# Altium integrated library TI Microcontroller MSP430 16-bit Ultra-Low Power.IntLib: 1463 symbols (part 11 of 130)
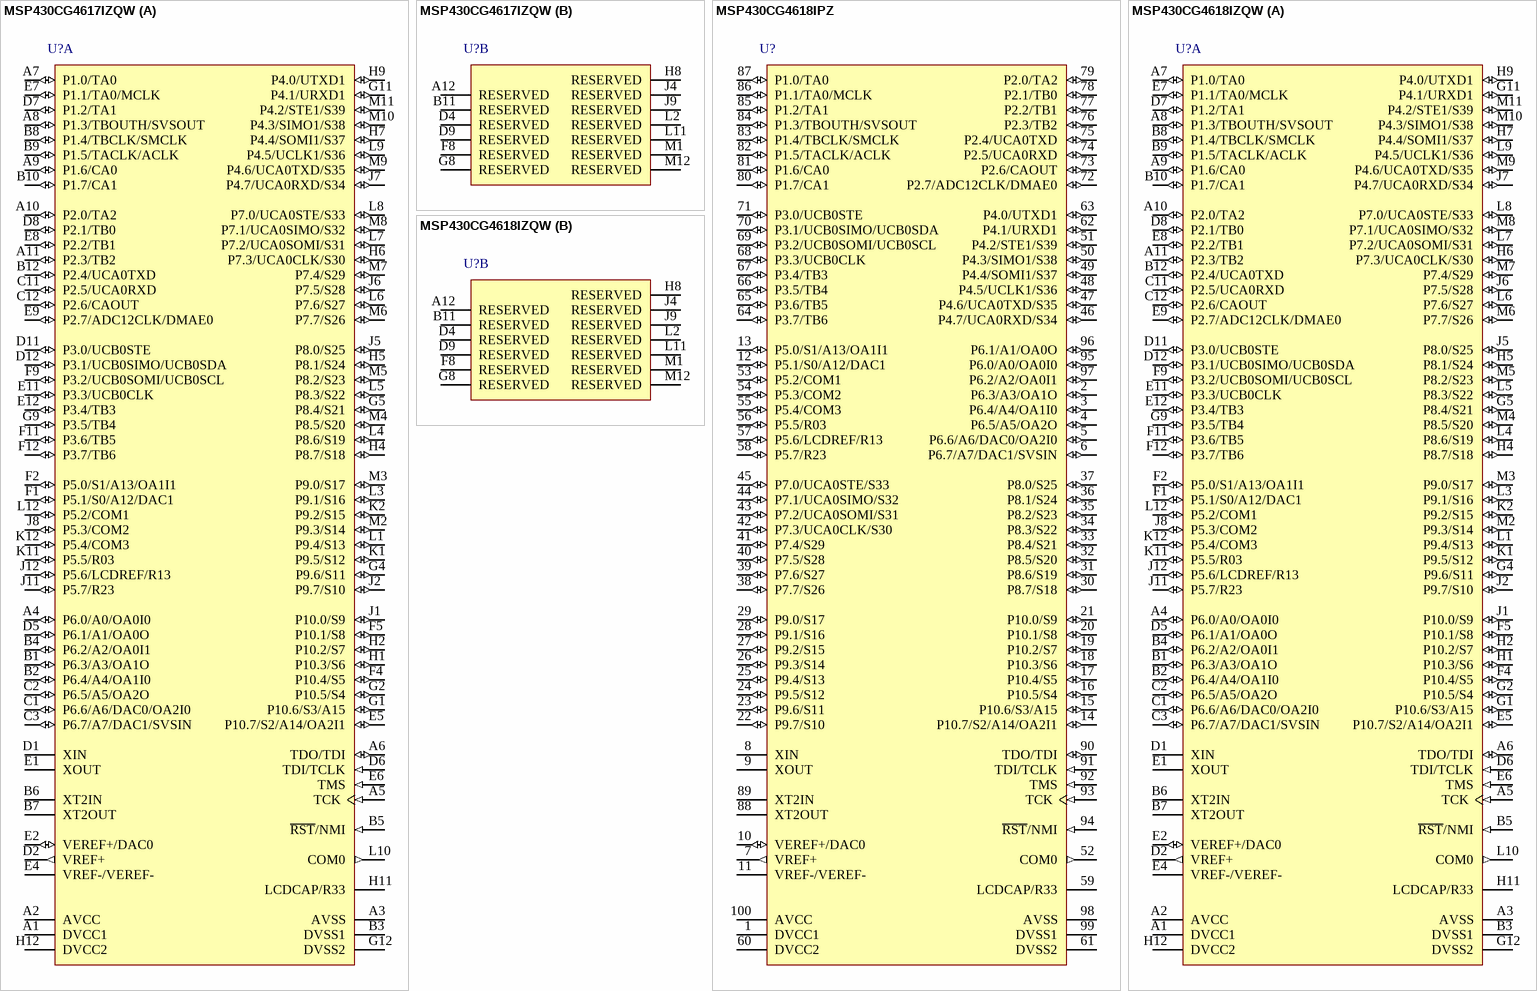
[diagram p242: symbols MSP430CG4617IZQW to MSP430CG4618IZQW]

## MSP430CG4618IPZ
designator U?
8 MHz Mixed Signal Microcontroller with 116 KB Flash, 8192 B SRAM and 80 GPIOs, -40 to 85 degC, 100-pin QFP (PZ); Manufacturer: Texas Instruments; PartNumber: MSP430CG4618IPZ; ADC: 12-bit SAR; Brown Out Reset: Yes; DAC: 2; DMA: 3; Flash(KB): 116; Frequency(MHz): 8; GPIO: 80; LCD Segments: 160; SRAM(B): 8192; SubFamily: 4 Series with LCD; USART: 1; DatasheetVersion: SLAS508I; PackageVersion: 4040149/B; PackageReference: PZ100; PackageDescription: 100-Pin Plastic Flat Pack, Body 14 x 14 mm, Pitch 0.5 mm; Supplier 1: Mouser; Supplier Part Number 1: N/A; Comparators: Yes; SVS: Yes; Temp Sensor: Yes; USCI_A (UART/LIN/IrDA/SPI): 1; USCI_B (I2C & SPI): 1; Watchdog: Yes; Mounting Technology: Surface Mount; Code_JEDEC: MS-026; ComponentLink1Description: Manufacturer URL; ComponentLink1URL: http://www.ti.com/; ComponentLink2Description: Datasheet; ComponentLink2URL: http://www.ti.com/general/docs/lit/getliterature.tsp?genericPartNumber=MSP430CG4618&fileType=pdf; ComponentLink3Description: Package Specification; ComponentLink3URL: http://www.ti.com/lit/ml/mtqf013a/mtqf013a.pdf
footprint TI-PZ100_N (QFP, 100-Leads, Body 14x14mm, Pitch 0.5mm, IPC Medium Density)
pins: 1 DVCC1 (power) "Digital supply voltage, positive terminal", 2 P6.3/A3/OA1O (io), 3 P6.4/A4/OA1I0 (io), 4 P6.5/A5/OA2O (io), 5 P6.6/A6/DAC0/OA2I0 (io), 6 P6.7/A7/DAC1/SVSIN (io), 7 VREF+ (out) "Output of positive terminal of the reference voltage in the ADC", 8 XIN "Input port for crystal oscillator XT1. Standard or watch crystals can be connected.", 9 XOUT "Output terminal of crystal oscillator XT1", 10 VEREF+/DAC0 (io), 11 VREF-/VEREF-, 12 P5.1/S0/A12/DAC1 (io), 13 P5.0/S1/A13/OA1I1 (io), 14 P10.7/S2/A14/OA2I1 (io), 15 P10.6/S3/A15 (io), 16 P10.5/S4 (io), 17 P10.4/S5 (io), 18 P10.3/S6 (io), 19 P10.2/S7 (io), 20 P10.1/S8 (io), 21 P10.0/S9 (io), 22 P9.7/S10 (io), 23 P9.6/S11 (io), 24 P9.5/S12 (io), 25 P9.4/S13 (io), 26 P9.3/S14 (io), 27 P9.2/S15 (io), 28 P9.1/S16 (io), 29 P9.0/S17 (io), 30 P8.7/S18 (io), 31 P8.6/S19 (io), 32 P8.5/S20 (io), 33 P8.4/S21 (io), 34 P8.3/S22 (io), 35 P8.2/S23 (io), 36 P8.1/S24 (io), 37 P8.0/S25 (io), 38 P7.7/S26 (io), 39 P7.6/S27 (io), 40 P7.5/S28 (io), 41 P7.4/S29 (io), 42 P7.3/UCA0CLK/S30 (io), 43 P7.2/UCA0SOMI/S31 (io), 44 P7.1/UCA0SIMO/S32 (io), 45 P7.0/UCA0STE/S33 (io), 46 P4.7/UCA0RXD/S34 (io), 47 P4.6/UCA0TXD/S35 (io), 48 P4.5/UCLK1/S36 (io), 49 P4.4/SOMI1/S37 (io), 50 P4.3/SIMO1/S38 (io), 51 P4.2/STE1/S39 (io), 52 COM0 (out) "COM0?3 are used for LCD backplanes.", 53 P5.2/COM1 (io), 54 P5.3/COM2 (io), 55 P5.4/COM3 (io), 56 P5.5/R03 (io), 57 P5.6/LCDREF/R13 (io), 58 P5.7/R23 (io), 59 LCDCAP/R33, 60 DVCC2 (power) "Digital supply voltage, positive terminal", 61 DVSS2 (power) "Digital supply voltage, negative terminal", 62 P4.1/URXD1 (io), 63 P4.0/UTXD1 (io), 64 P3.7/TB6 (io), 65 P3.6/TB5 (io), 66 P3.5/TB4 (io), 67 P3.4/TB3 (io), 68 P3.3/UCB0CLK (io), 69 P3.2/UCB0SOMI/UCB0SCL (io), 70 P3.1/UCB0SIMO/UCB0SDA (io), 71 P3.0/UCB0STE (io), 72 P2.7/ADC12CLK/DMAE0 (io), 73 P2.6/CAOUT (io), 74 P2.5/UCA0RXD (io), 75 P2.4/UCA0TXD (io), 76 P2.3/TB2 (io), 77 P2.2/TB1 (io), 78 P2.1/TB0 (io), 79 P2.0/TA2 (io), 80 P1.7/CA1 (io), 81 P1.6/CA0 (io), 82 P1.5/TACLK/ACLK (io), 83 P1.4/TBCLK/SMCLK (io), 84 P1.3/TBOUTH/SVSOUT (io), 85 P1.2/TA1 (io), 86 P1.1/TA0/MCLK (io), 87 P1.0/TA0 (io), 88 XT2OUT "Output terminal of crystal oscillator XT2", 89 XT2IN "Input port for crystal oscillator XT2. Only standard crystals can be connected.", 90 TDO/TDI (io), 91 TDI/TCLK (in), 92 TMS (in) "Test mode select. TMS is used as an input port for device programming and test.", 93 TCK (in) "Test clock. TCK is the clock input port for device programming and test.", 94 ~{RST}/NMI (in), 95 P6.0/A0/OA0I0 (io), 96 P6.1/A1/OA0O (io), 97 P6.2/A2/OA0I1 (io), 98 AVSS (power) "Analog supply voltage, negative terminal. Supplies SVS, brownout, oscillator, comparator_A, port 1", 99 DVSS1 (power) "Digital supply voltage, negative terminal", 100 AVCC (power) "Analog supply voltage, positive terminal. Supplies SVS, brownout, oscillator, comparator_A, port 1; must not power up prior to DVCC1/DVCC2."

## MSP430CG4618IZQW
designator U?
8 MHz Mixed Signal Microcontroller with 116 KB Flash, 8192 B SRAM and 80 GPIOs, -40 to 85 degC, 113-pin BGA (ZQW); Manufacturer: Texas Instruments; PartNumber: MSP430CG4618IZQW; ADC: 12-bit SAR; Brown Out Reset: Yes; DAC: 2; DMA: 3; Flash(KB): 116; Frequency(MHz): 8; GPIO: 80; LCD Segments: 160; SRAM(B): 8192; SubFamily: 4 Series with LCD; USART: 1; DatasheetVersion: SLAS508I; PackageVersion: 4204599-3/D; PackageReference: ZQW113; PackageDescription: 113-Pin Plastic Ball Grid Array Package, Body 7 x 7 mm, Pitch 0.5 mm; Comparators: Yes; SVS: Yes; Temp Sensor: Yes; USCI_A (UART/LIN/IrDA/SPI): 1; USCI_B (I2C & SPI): 1; Watchdog: Yes; Mounting Technology: Surface Mount; Code_JEDEC: MO-225; ComponentLink1Description: Manufacturer URL; ComponentLink1URL: http://www.ti.com/; ComponentLink2Description: Datasheet; ComponentLink2URL: http://www.ti.com/general/docs/lit/getliterature.tsp?genericPartNumber=MSP430CG4618&fileType=pdf; ComponentLink3Description: Package Specification; ComponentLink3URL: http://www.ti.com/lit/ml/mpbg674/mpbg674.pdf
footprint TI-ZQW113 (BGA, 113-Balls, Body 7x7mm, Pitch 0.5mm)
part A pins: A1 DVCC1 (power) "Digital supply voltage, positive terminal", A2 AVCC (power) "Analog supply voltage, positive terminal. Supplies SVS, brownout, oscillator, comparator_A, port 1; must not power up prior to DVCC1/DVCC2.", A3 AVSS (power) "Analog supply voltage, negative terminal. Supplies SVS, brownout, oscillator, comparator_A, port 1", A4 P6.0/A0/OA0I0 (io), A5 TCK (in) "Test clock. TCK is the clock input port for device programming and test.", A6 TDO/TDI (io), A7 P1.0/TA0 (io), A8 P1.3/TBOUTH/SVSOUT (io), A9 P1.6/CA0 (io), A10 P2.0/TA2 (io), A11 P2.3/TB2 (io), B1 P6.3/A3/OA1O (io), B2 P6.4/A4/OA1I0 (io), B3 DVSS1 (power) "Digital supply voltage, negative terminal", B4 P6.2/A2/OA0I1 (io), B5 ~{RST}/NMI (in), B6 XT2IN "Input port for crystal oscillator XT2. Only standard crystals can be connected.", B7 XT2OUT "Output terminal of crystal oscillator XT2", B8 P1.4/TBCLK/SMCLK (io), B9 P1.5/TACLK/ACLK (io), B10 P1.7/CA1 (io), B12 P2.4/UCA0TXD (io), C1 P6.6/A6/DAC0/OA2I0 (io), C2 P6.5/A5/OA2O (io), C3 P6.7/A7/DAC1/SVSIN (io), C11 P2.5/UCA0RXD (io), C12 P2.6/CAOUT (io), D1 XIN "Input port for crystal oscillator XT1. Standard or watch crystals can be connected.", D2 VREF+ (out) "Output of positive terminal of the reference voltage in the ADC", D5 P6.1/A1/OA0O (io), D6 TDI/TCLK (in), D7 P1.2/TA1 (io), D8 P2.1/TB0 (io), D11 P3.0/UCB0STE (io), D12 P3.1/UCB0SIMO/UCB0SDA (io), E1 XOUT "Output terminal of crystal oscillator XT1", E2 VEREF+/DAC0 (io), E4 VREF-/VEREF-, E5 P10.7/S2/A14/OA2I1 (io), E6 TMS (in) "Test mode select. TMS is used as an input port for device programming and test.", E7 P1.1/TA0/MCLK (io), E8 P2.2/TB1 (io), E9 P2.7/ADC12CLK/DMAE0 (io), E11 P3.3/UCB0CLK (io), E12 P3.4/TB3 (io), F1 P5.1/S0/A12/DAC1 (io), F2 P5.0/S1/A13/OA1I1 (io), F4 P10.4/S5 (io), F5 P10.1/S8 (io), F9 P3.2/UCB0SOMI/UCB0SCL (io), F11 P3.6/TB5 (io), F12 P3.7/TB6 (io), G1 P10.6/S3/A15 (io), G2 P10.5/S4 (io), G4 P9.6/S11 (io), G5 P8.4/S21 (io), G9 P3.5/TB4 (io), G11 P4.1/URXD1 (io), G12 DVSS2 (power) "Digital supply voltage, negative terminal", H1 P10.3/S6 (io), H2 P10.2/S7 (io), H4 P8.7/S18 (io), H5 P8.1/S24 (io), H6 P7.3/UCA0CLK/S30 (io), H7 P4.4/SOMI1/S37 (io), H9 P4.0/UTXD1 (io), H11 LCDCAP/R33, H12 DVCC2 (power) "Digital supply voltage, positive terminal", J1 P10.0/S9 (io), J2 P9.7/S10 (io), J5 P8.0/S25 (io), J6 P7.5/S28 (io), J7 P4.7/UCA0RXD/S34 (io), J8 P5.3/COM2 (io), J11 P5.7/R23 (io), J12 P5.6/LCDREF/R13 (io), K1 P9.5/S12 (io), K2 P9.2/S15 (io), K11 P5.5/R03 (io), K12 P5.4/COM3 (io), L1 P9.4/S13 (io), L3 P9.1/S16 (io), L4 P8.6/S19 (io), L5 P8.3/S22 (io), L6 P7.6/S27 (io), L7 P7.2/UCA0SOMI/S31 (io), L8 P7.0/UCA0STE/S33 (io), L9 P4.5/UCLK1/S36 (io), L10 COM0 (out) "COM0?3 are used for LCD backplanes.", L12 P5.2/COM1 (io), M2 P9.3/S14 (io), M3 P9.0/S17 (io), M4 P8.5/S20 (io), M5 P8.2/S23 (io), M6 P7.7/S26 (io), M7 P7.4/S29 (io), M8 P7.1/UCA0SIMO/S32 (io), M9 P4.6/UCA0TXD/S35 (io), M10 P4.3/SIMO1/S38 (io), M11 P4.2/STE1/S39 (io)
part B pins: A12 RESERVED, B11 RESERVED, D4 RESERVED, D9 RESERVED, F8 RESERVED, G8 RESERVED, H8 RESERVED, J4 RESERVED, J9 RESERVED, L2 RESERVED, L11 RESERVED, M1 RESERVED, M12 RESERVED

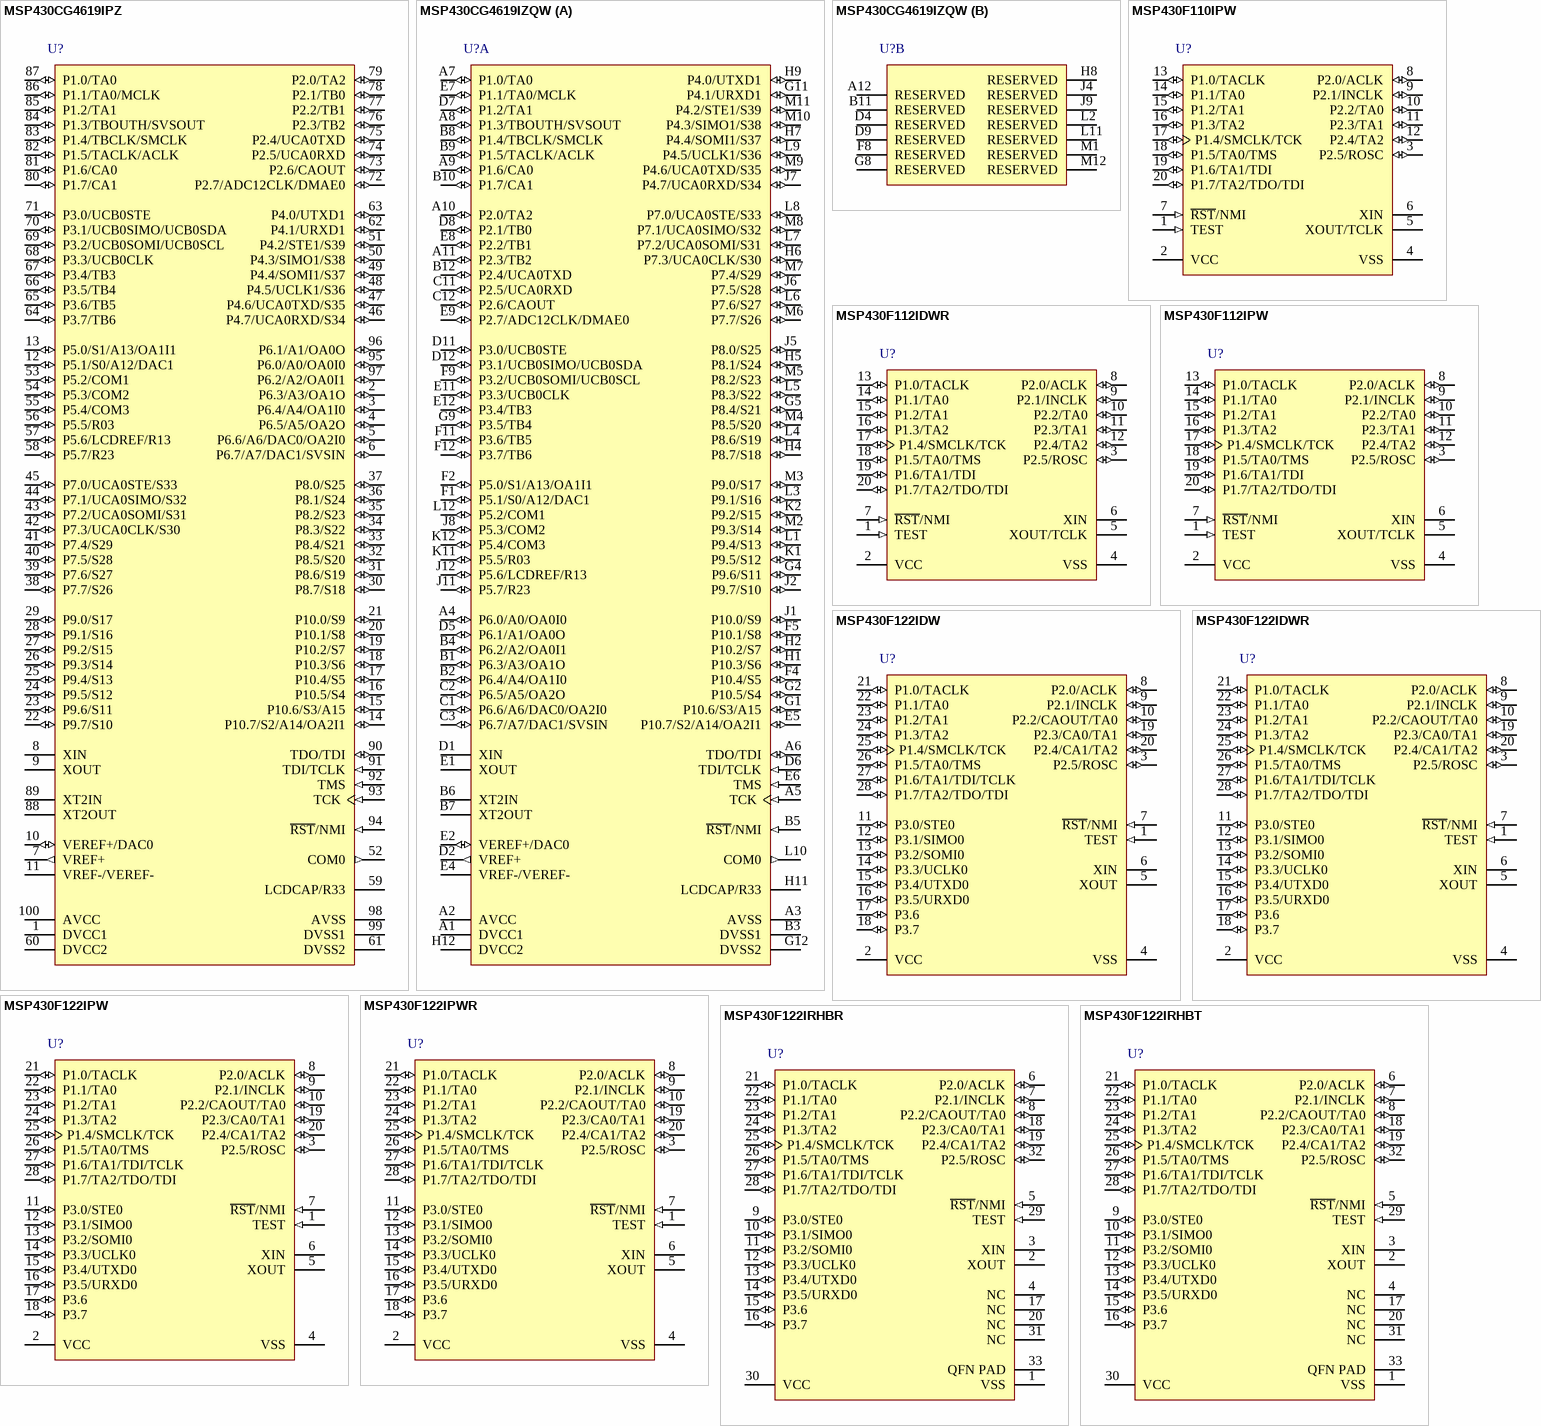
[diagram p19: symbols MSP430CG4619IPZ to MSP430F122IRHBT]

## MSP430CG4619IPZ
designator U?
8 MHz Mixed Signal Microcontroller with 120 KB Flash, 4096 B SRAM and 80 GPIOs, -40 to 85 degC, 100-pin QFP (PZ); Manufacturer: Texas Instruments; PartNumber: MSP430CG4619IPZ; ADC: 12-bit SAR; Brown Out Reset: Yes; DAC: 2; DMA: 3; Flash(KB): 120; Frequency(MHz): 8; GPIO: 80; LCD Segments: 160; SRAM(B): 4096; SubFamily: 4 Series with LCD; USART: 1; DatasheetVersion: SLAS508I; PackageVersion: 4040149/B; PackageReference: PZ100; PackageDescription: 100-Pin Plastic Flat Pack, Body 14 x 14 mm, Pitch 0.5 mm; Supplier 1: Mouser; Supplier Part Number 1: N/A; Comparators: Yes; SVS: Yes; Temp Sensor: Yes; USCI_A (UART/LIN/IrDA/SPI): 1; USCI_B (I2C & SPI): 1; Watchdog: Yes; Mounting Technology: Surface Mount; Code_JEDEC: MS-026; ComponentLink1Description: Manufacturer URL; ComponentLink1URL: http://www.ti.com/; ComponentLink2Description: Datasheet; ComponentLink2URL: http://www.ti.com/general/docs/lit/getliterature.tsp?genericPartNumber=MSP430CG4619&fileType=pdf; ComponentLink3Description: Package Specification; ComponentLink3URL: http://www.ti.com/lit/ml/mtqf013a/mtqf013a.pdf
footprint TI-PZ100_N (QFP, 100-Leads, Body 14x14mm, Pitch 0.5mm, IPC Medium Density)
pins: 1 DVCC1 (power) "Digital supply voltage, positive terminal", 2 P6.3/A3/OA1O (io), 3 P6.4/A4/OA1I0 (io), 4 P6.5/A5/OA2O (io), 5 P6.6/A6/DAC0/OA2I0 (io), 6 P6.7/A7/DAC1/SVSIN (io), 7 VREF+ (out) "Output of positive terminal of the reference voltage in the ADC", 8 XIN "Input port for crystal oscillator XT1. Standard or watch crystals can be connected.", 9 XOUT "Output terminal of crystal oscillator XT1", 10 VEREF+/DAC0 (io), 11 VREF-/VEREF-, 12 P5.1/S0/A12/DAC1 (io), 13 P5.0/S1/A13/OA1I1 (io), 14 P10.7/S2/A14/OA2I1 (io), 15 P10.6/S3/A15 (io), 16 P10.5/S4 (io), 17 P10.4/S5 (io), 18 P10.3/S6 (io), 19 P10.2/S7 (io), 20 P10.1/S8 (io), 21 P10.0/S9 (io), 22 P9.7/S10 (io), 23 P9.6/S11 (io), 24 P9.5/S12 (io), 25 P9.4/S13 (io), 26 P9.3/S14 (io), 27 P9.2/S15 (io), 28 P9.1/S16 (io), 29 P9.0/S17 (io), 30 P8.7/S18 (io), 31 P8.6/S19 (io), 32 P8.5/S20 (io), 33 P8.4/S21 (io), 34 P8.3/S22 (io), 35 P8.2/S23 (io), 36 P8.1/S24 (io), 37 P8.0/S25 (io), 38 P7.7/S26 (io), 39 P7.6/S27 (io), 40 P7.5/S28 (io), 41 P7.4/S29 (io), 42 P7.3/UCA0CLK/S30 (io), 43 P7.2/UCA0SOMI/S31 (io), 44 P7.1/UCA0SIMO/S32 (io), 45 P7.0/UCA0STE/S33 (io), 46 P4.7/UCA0RXD/S34 (io), 47 P4.6/UCA0TXD/S35 (io), 48 P4.5/UCLK1/S36 (io), 49 P4.4/SOMI1/S37 (io), 50 P4.3/SIMO1/S38 (io), 51 P4.2/STE1/S39 (io), 52 COM0 (out) "COM0?3 are used for LCD backplanes.", 53 P5.2/COM1 (io), 54 P5.3/COM2 (io), 55 P5.4/COM3 (io), 56 P5.5/R03 (io), 57 P5.6/LCDREF/R13 (io), 58 P5.7/R23 (io), 59 LCDCAP/R33, 60 DVCC2 (power) "Digital supply voltage, positive terminal", 61 DVSS2 (power) "Digital supply voltage, negative terminal", 62 P4.1/URXD1 (io), 63 P4.0/UTXD1 (io), 64 P3.7/TB6 (io), 65 P3.6/TB5 (io), 66 P3.5/TB4 (io), 67 P3.4/TB3 (io), 68 P3.3/UCB0CLK (io), 69 P3.2/UCB0SOMI/UCB0SCL (io), 70 P3.1/UCB0SIMO/UCB0SDA (io), 71 P3.0/UCB0STE (io), 72 P2.7/ADC12CLK/DMAE0 (io), 73 P2.6/CAOUT (io), 74 P2.5/UCA0RXD (io), 75 P2.4/UCA0TXD (io), 76 P2.3/TB2 (io), 77 P2.2/TB1 (io), 78 P2.1/TB0 (io), 79 P2.0/TA2 (io), 80 P1.7/CA1 (io), 81 P1.6/CA0 (io), 82 P1.5/TACLK/ACLK (io), 83 P1.4/TBCLK/SMCLK (io), 84 P1.3/TBOUTH/SVSOUT (io), 85 P1.2/TA1 (io), 86 P1.1/TA0/MCLK (io), 87 P1.0/TA0 (io), 88 XT2OUT "Output terminal of crystal oscillator XT2", 89 XT2IN "Input port for crystal oscillator XT2. Only standard crystals can be connected.", 90 TDO/TDI (io), 91 TDI/TCLK (in), 92 TMS (in) "Test mode select. TMS is used as an input port for device programming and test.", 93 TCK (in) "Test clock. TCK is the clock input port for device programming and test.", 94 ~{RST}/NMI (in), 95 P6.0/A0/OA0I0 (io), 96 P6.1/A1/OA0O (io), 97 P6.2/A2/OA0I1 (io), 98 AVSS (power) "Analog supply voltage, negative terminal. Supplies SVS, brownout, oscillator, comparator_A, port 1", 99 DVSS1 (power) "Digital supply voltage, negative terminal", 100 AVCC (power) "Analog supply voltage, positive terminal. Supplies SVS, brownout, oscillator, comparator_A, port 1; must not power up prior to DVCC1/DVCC2."

## MSP430CG4619IZQW
designator U?
8 MHz Mixed Signal Microcontroller with 120 KB Flash, 4096 B SRAM and 80 GPIOs, -40 to 85 degC, 113-pin BGA (ZQW); Manufacturer: Texas Instruments; PartNumber: MSP430CG4619IZQW; ADC: 12-bit SAR; Brown Out Reset: Yes; DAC: 2; DMA: 3; Flash(KB): 120; Frequency(MHz): 8; GPIO: 80; LCD Segments: 160; SRAM(B): 4096; SubFamily: 4 Series with LCD; USART: 1; DatasheetVersion: SLAS508I; PackageVersion: 4204599-3/D; PackageReference: ZQW113; PackageDescription: 113-Pin Plastic Ball Grid Array Package, Body 7 x 7 mm, Pitch 0.5 mm; Comparators: Yes; SVS: Yes; Temp Sensor: Yes; USCI_A (UART/LIN/IrDA/SPI): 1; USCI_B (I2C & SPI): 1; Watchdog: Yes; Mounting Technology: Surface Mount; Code_JEDEC: MO-225; ComponentLink1Description: Manufacturer URL; ComponentLink1URL: http://www.ti.com/; ComponentLink2Description: Datasheet; ComponentLink2URL: http://www.ti.com/general/docs/lit/getliterature.tsp?genericPartNumber=MSP430CG4619&fileType=pdf; ComponentLink3Description: Package Specification; ComponentLink3URL: http://www.ti.com/lit/ml/mpbg674/mpbg674.pdf
footprint TI-ZQW113 (BGA, 113-Balls, Body 7x7mm, Pitch 0.5mm)
part A pins: A1 DVCC1 (power) "Digital supply voltage, positive terminal", A2 AVCC (power) "Analog supply voltage, positive terminal. Supplies SVS, brownout, oscillator, comparator_A, port 1; must not power up prior to DVCC1/DVCC2.", A3 AVSS (power) "Analog supply voltage, negative terminal. Supplies SVS, brownout, oscillator, comparator_A, port 1", A4 P6.0/A0/OA0I0 (io), A5 TCK (in) "Test clock. TCK is the clock input port for device programming and test.", A6 TDO/TDI (io), A7 P1.0/TA0 (io), A8 P1.3/TBOUTH/SVSOUT (io), A9 P1.6/CA0 (io), A10 P2.0/TA2 (io), A11 P2.3/TB2 (io), B1 P6.3/A3/OA1O (io), B2 P6.4/A4/OA1I0 (io), B3 DVSS1 (power) "Digital supply voltage, negative terminal", B4 P6.2/A2/OA0I1 (io), B5 ~{RST}/NMI (in), B6 XT2IN "Input port for crystal oscillator XT2. Only standard crystals can be connected.", B7 XT2OUT "Output terminal of crystal oscillator XT2", B8 P1.4/TBCLK/SMCLK (io), B9 P1.5/TACLK/ACLK (io), B10 P1.7/CA1 (io), B12 P2.4/UCA0TXD (io), C1 P6.6/A6/DAC0/OA2I0 (io), C2 P6.5/A5/OA2O (io), C3 P6.7/A7/DAC1/SVSIN (io), C11 P2.5/UCA0RXD (io), C12 P2.6/CAOUT (io), D1 XIN "Input port for crystal oscillator XT1. Standard or watch crystals can be connected.", D2 VREF+ (out) "Output of positive terminal of the reference voltage in the ADC", D5 P6.1/A1/OA0O (io), D6 TDI/TCLK (in), D7 P1.2/TA1 (io), D8 P2.1/TB0 (io), D11 P3.0/UCB0STE (io), D12 P3.1/UCB0SIMO/UCB0SDA (io), E1 XOUT "Output terminal of crystal oscillator XT1", E2 VEREF+/DAC0 (io), E4 VREF-/VEREF-, E5 P10.7/S2/A14/OA2I1 (io), E6 TMS (in) "Test mode select. TMS is used as an input port for device programming and test.", E7 P1.1/TA0/MCLK (io), E8 P2.2/TB1 (io), E9 P2.7/ADC12CLK/DMAE0 (io), E11 P3.3/UCB0CLK (io), E12 P3.4/TB3 (io), F1 P5.1/S0/A12/DAC1 (io), F2 P5.0/S1/A13/OA1I1 (io), F4 P10.4/S5 (io), F5 P10.1/S8 (io), F9 P3.2/UCB0SOMI/UCB0SCL (io), F11 P3.6/TB5 (io), F12 P3.7/TB6 (io), G1 P10.6/S3/A15 (io), G2 P10.5/S4 (io), G4 P9.6/S11 (io), G5 P8.4/S21 (io), G9 P3.5/TB4 (io), G11 P4.1/URXD1 (io), G12 DVSS2 (power) "Digital supply voltage, negative terminal", H1 P10.3/S6 (io), H2 P10.2/S7 (io), H4 P8.7/S18 (io), H5 P8.1/S24 (io), H6 P7.3/UCA0CLK/S30 (io), H7 P4.4/SOMI1/S37 (io), H9 P4.0/UTXD1 (io), H11 LCDCAP/R33, H12 DVCC2 (power) "Digital supply voltage, positive terminal", J1 P10.0/S9 (io), J2 P9.7/S10 (io), J5 P8.0/S25 (io), J6 P7.5/S28 (io), J7 P4.7/UCA0RXD/S34 (io), J8 P5.3/COM2 (io), J11 P5.7/R23 (io), J12 P5.6/LCDREF/R13 (io), K1 P9.5/S12 (io), K2 P9.2/S15 (io), K11 P5.5/R03 (io), K12 P5.4/COM3 (io), L1 P9.4/S13 (io), L3 P9.1/S16 (io), L4 P8.6/S19 (io), L5 P8.3/S22 (io), L6 P7.6/S27 (io), L7 P7.2/UCA0SOMI/S31 (io), L8 P7.0/UCA0STE/S33 (io), L9 P4.5/UCLK1/S36 (io), L10 COM0 (out) "COM0?3 are used for LCD backplanes.", L12 P5.2/COM1 (io), M2 P9.3/S14 (io), M3 P9.0/S17 (io), M4 P8.5/S20 (io), M5 P8.2/S23 (io), M6 P7.7/S26 (io), M7 P7.4/S29 (io), M8 P7.1/UCA0SIMO/S32 (io), M9 P4.6/UCA0TXD/S35 (io), M10 P4.3/SIMO1/S38 (io), M11 P4.2/STE1/S39 (io)
part B pins: A12 RESERVED, B11 RESERVED, D4 RESERVED, D9 RESERVED, F8 RESERVED, G8 RESERVED, H8 RESERVED, J4 RESERVED, J9 RESERVED, L2 RESERVED, L11 RESERVED, M1 RESERVED, M12 RESERVED

## MSP430F110IPW
designator U?
8 MHz Mixed Signal Microcontroller with 1 KB Flash, 128 B SRAM and 14 GPIOs, -40 to 85 degC, 20-pin SOP (PW), Green (RoHS & no Sb/Br); Manufacturer: Texas Instruments; PartNumber: MSP430F110IPW; Flash(KB): 1; Frequency(MHz): 8; GPIO: 14; SRAM(B): 128; SubFamily: 1 Series; Watchdog: Yes; DatasheetVersion: SLAS256D; PackageVersion: 4040064-5/G; PackageReference: PW20; PackageDescription: 20-Pin Plastic Small Outline, Body 6.5 x 4.4 mm, 0.65 mm Pitch; Supplier 1: Digi-Key; Supplier Part Number 1: 296-9609-5-ND; Supplier 2: Mouser; Supplier Part Number 2: 595-MSP430F110IPW; Eco-Plan: Green (RoHS & no Sb/Br); Timers - 16-bit: 1; Mounting Technology: Surface Mount; Code_JEDEC: MO-153; ComponentLink1Description: Manufacturer URL; ComponentLink1URL: http://www.ti.com/; ComponentLink2Description: Datasheet; ComponentLink2URL: http://www.ti.com/general/docs/lit/getliterature.tsp?genericPartNumber=MSP430F110&fileType=pdf; ComponentLink3Description: Package Specification; ComponentLink3URL: http://www.ti.com.cn/cn/lit/ml/mpds362/mpds362.pdf
footprint TI-PW20_N (SOP, 20-Leads, Body 6.5x4.4mm, Pitch 0.65mm, IPC Medium Density)
pins: 1 TEST (in) "Selects test mode for JTAG pins on Port1. Must be tied low with less than 30 k ohm.", 2 VCC (power) "Supply voltage", 3 P2.5/ROSC (io), 4 VSS (power) "Ground reference", 5 XOUT/TCLK, 6 XIN "Input terminal of crystal oscillator", 7 ~{RST}/NMI (in), 8 P2.0/ACLK (io), 9 P2.1/INCLK (io), 10 P2.2/TA0 (io), 11 P2.3/TA1 (io), 12 P2.4/TA2 (io), 13 P1.0/TACLK (io), 14 P1.1/TA0 (io), 15 P1.2/TA1 (io), 16 P1.3/TA2 (io), 17 P1.4/SMCLK/TCK (io), 18 P1.5/TA0/TMS (io), 19 P1.6/TA1/TDI (io), 20 P1.7/TA2/TDO/TDI (io)

## MSP430F112IDWR
designator U?
8 MHz Mixed Signal Microcontroller with 4 KB Flash, 128 B SRAM and 14 GPIOs, -40 to 85 degC, 20-pin SOIC (DW), Green (RoHS & no Sb/Br); Manufacturer: Texas Instruments; PartNumber: MSP430F112IDWR; Flash(KB): 4; Frequency(MHz): 8; GPIO: 14; SRAM(B): 128; SubFamily: 1 Series; Timers - 16-bit: 1; Watchdog: Yes; DatasheetVersion: SLAS256D; PackageVersion: 4040000-4/G; PackageReference: DW20; PackageDescription: 20-Pin Plastic Small Outline, Body 12.8 x 7.5 mm, Pitch 1.27 mm; Supplier 1: Digi-Key; Supplier Part Number 1: MSP430F112IDWR-ND; Supplier 2: Mouser; Supplier Part Number 2: 595-MSP430F112IDWR; Eco-Plan: Green (RoHS & no Sb/Br); Mounting Technology: Surface Mount; Code_JEDEC: MO-013; ComponentLink1Description: Manufacturer URL; ComponentLink1URL: http://www.ti.com/; ComponentLink2Description: Datasheet; ComponentLink2URL: http://www.ti.com/general/docs/lit/getliterature.tsp?genericPartNumber=MSP430F112&fileType=pdf; ComponentLink3Description: Package Specification; ComponentLink3URL: http://www.ti.com/lit/ml/mpds173a/mpds173a.pdf
footprint TI-DW20_N (SOIC, 20-Leads, Body 12.8x7.5mm, Pitch 1.27mm, IPC Medium Density)
pins: 1 TEST (in) "Selects test mode for JTAG pins on Port1. Must be tied low with less than 30 k ohm.", 2 VCC (power) "Supply voltage", 3 P2.5/ROSC (io), 4 VSS (power) "Ground reference", 5 XOUT/TCLK, 6 XIN "Input terminal of crystal oscillator", 7 ~{RST}/NMI (in), 8 P2.0/ACLK (io), 9 P2.1/INCLK (io), 10 P2.2/TA0 (io), 11 P2.3/TA1 (io), 12 P2.4/TA2 (io), 13 P1.0/TACLK (io), 14 P1.1/TA0 (io), 15 P1.2/TA1 (io), 16 P1.3/TA2 (io), 17 P1.4/SMCLK/TCK (io), 18 P1.5/TA0/TMS (io), 19 P1.6/TA1/TDI (io), 20 P1.7/TA2/TDO/TDI (io)

## MSP430F112IPW
designator U?
8 MHz Mixed Signal Microcontroller with 4 KB Flash, 128 B SRAM and 14 GPIOs, -40 to 85 degC, 20-pin SOP (PW), Green (RoHS & no Sb/Br); Manufacturer: Texas Instruments; PartNumber: MSP430F112IPW; Flash(KB): 4; Frequency(MHz): 8; GPIO: 14; SRAM(B): 128; SubFamily: 1 Series; Timers - 16-bit: 1; Watchdog: Yes; DatasheetVersion: SLAS256D; PackageVersion: 4040064-5/G; PackageReference: PW20; PackageDescription: 20-Pin Plastic Small Outline, Body 6.5 x 4.4 mm, 0.65 mm Pitch; Supplier 1: Digi-Key; Supplier Part Number 1: 296-9610-5-ND; Supplier 2: Mouser; Supplier Part Number 2: 595-MSP430F112IPW; Eco-Plan: Green (RoHS & no Sb/Br); Mounting Technology: Surface Mount; Code_JEDEC: MO-153; ComponentLink1Description: Manufacturer URL; ComponentLink1URL: http://www.ti.com/; ComponentLink2Description: Datasheet; ComponentLink2URL: http://www.ti.com/general/docs/lit/getliterature.tsp?genericPartNumber=MSP430F112&fileType=pdf; ComponentLink3Description: Package Specification; ComponentLink3URL: http://www.ti.com.cn/cn/lit/ml/mpds362/mpds362.pdf
footprint TI-PW20_N (SOP, 20-Leads, Body 6.5x4.4mm, Pitch 0.65mm, IPC Medium Density)
pins: 1 TEST (in) "Selects test mode for JTAG pins on Port1. Must be tied low with less than 30 k ohm.", 2 VCC (power) "Supply voltage", 3 P2.5/ROSC (io), 4 VSS (power) "Ground reference", 5 XOUT/TCLK, 6 XIN "Input terminal of crystal oscillator", 7 ~{RST}/NMI (in), 8 P2.0/ACLK (io), 9 P2.1/INCLK (io), 10 P2.2/TA0 (io), 11 P2.3/TA1 (io), 12 P2.4/TA2 (io), 13 P1.0/TACLK (io), 14 P1.1/TA0 (io), 15 P1.2/TA1 (io), 16 P1.3/TA2 (io), 17 P1.4/SMCLK/TCK (io), 18 P1.5/TA0/TMS (io), 19 P1.6/TA1/TDI (io), 20 P1.7/TA2/TDO/TDI (io)

## MSP430F122IDW
designator U?
8 MHz Mixed Signal Microcontroller with 4 KB Flash, 256 B SRAM and 22 GPIOs, -40 to 85 degC, 28-pin SOIC (DW), Green (RoHS & no Sb/Br); Manufacturer: Texas Instruments; PartNumber: MSP430F122IDW; ADC: Slope; Comparators: Yes; Flash(KB): 4; Frequency(MHz): 8; GPIO: 22; SRAM(B): 256; SubFamily: 1 Series; Timers - 16-bit: 1; DatasheetVersion: SLAS312C; PackageVersion: 4040000-6/G; PackageReference: DW28; PackageDescription: 28-Pin Plastic Small Outline, Body 17.90 x 7.50 mm, Pitch 1.27 mm; Supplier 1: Digi-Key; Supplier Part Number 1: 296-12618-ND; Supplier 2: Farnell; Supplier Part Number 2: 1471262; Supplier 3: Newark; Supplier Part Number 3: 36K7567; Supplier 4: Mouser; Supplier Part Number 4: 595-430F122IDW; Eco-Plan: Green (RoHS & no Sb/Br); USART: 1; Watchdog: Yes; Mounting Technology: Surface Mount; Code_JEDEC: MS-013; ComponentLink1Description: Manufacturer URL; ComponentLink1URL: http://www.ti.com/; ComponentLink2Description: Datasheet; ComponentLink2URL: http://www.ti.com/general/docs/lit/getliterature.tsp?genericPartNumber=MSP430F122&fileType=pdf; ComponentLink3Description: Package Specification; ComponentLink3URL: http://www.ti.com/lit/ml/mpds175a/mpds175a.pdf
footprint TI-DW28_N (SOIC, 28-Leads, Body 17.9x7.5mm, Pitch 1.27mm, IPC Medium Density)
pins: 1 TEST (in) "Selects test mode for JTAG pins on Port1", 2 VCC (power) "Supply voltage", 3 P2.5/ROSC (io), 4 VSS (power) "Ground reference", 5 XOUT "Output terminal of crystal oscillator", 6 XIN "Input terminal of crystal oscillator", 7 ~{RST}/NMI (in), 8 P2.0/ACLK (io), 9 P2.1/INCLK (io), 10 P2.2/CAOUT/TA0 (io), 11 P3.0/STE0 (io), 12 P3.1/SIMO0 (io), 13 P3.2/SOMI0 (io), 14 P3.3/UCLK0 (io), 15 P3.4/UTXD0 (io), 16 P3.5/URXD0 (io), 17 P3.6 (io) "General-purpose digital I/O pin", 18 P3.7 (io) "General-purpose digital I/O pin", 19 P2.3/CA0/TA1 (io), 20 P2.4/CA1/TA2 (io), 21 P1.0/TACLK (io), 22 P1.1/TA0 (io), 23 P1.2/TA1 (io), 24 P1.3/TA2 (io), 25 P1.4/SMCLK/TCK (io), 26 P1.5/TA0/TMS (io), 27 P1.6/TA1/TDI/TCLK (io), 28 P1.7/TA2/TDO/TDI (io)

## MSP430F122IDWR
designator U?
8 MHz Mixed Signal Microcontroller with 4 KB Flash, 256 B SRAM and 22 GPIOs, -40 to 85 degC, 28-pin SOIC (DW), Green (RoHS & no Sb/Br); Manufacturer: Texas Instruments; PartNumber: MSP430F122IDWR; ADC: Slope; Comparators: Yes; Flash(KB): 4; Frequency(MHz): 8; GPIO: 22; SRAM(B): 256; SubFamily: 1 Series; Timers - 16-bit: 1; DatasheetVersion: SLAS312C; PackageVersion: 4040000-6/G; PackageReference: DW28; PackageDescription: 28-Pin Plastic Small Outline, Body 17.90 x 7.50 mm, Pitch 1.27 mm; Supplier 1: Digi-Key; Supplier Part Number 1: MSP430F122IDWR-ND; Supplier 2: Newark; Supplier Part Number 2: 75C4028; Supplier 3: Mouser; Supplier Part Number 3: 595-430F122IDWR; Eco-Plan: Green (RoHS & no Sb/Br); USART: 1; Watchdog: Yes; Mounting Technology: Surface Mount; Code_JEDEC: MS-013; ComponentLink1Description: Manufacturer URL; ComponentLink1URL: http://www.ti.com/; ComponentLink2Description: Datasheet; ComponentLink2URL: http://www.ti.com/general/docs/lit/getliterature.tsp?genericPartNumber=MSP430F122&fileType=pdf; ComponentLink3Description: Package Specification; ComponentLink3URL: http://www.ti.com/lit/ml/mpds175a/mpds175a.pdf
footprint TI-DW28_N (SOIC, 28-Leads, Body 17.9x7.5mm, Pitch 1.27mm, IPC Medium Density)
pins: 1 TEST (in) "Selects test mode for JTAG pins on Port1", 2 VCC (power) "Supply voltage", 3 P2.5/ROSC (io), 4 VSS (power) "Ground reference", 5 XOUT "Output terminal of crystal oscillator", 6 XIN "Input terminal of crystal oscillator", 7 ~{RST}/NMI (in), 8 P2.0/ACLK (io), 9 P2.1/INCLK (io), 10 P2.2/CAOUT/TA0 (io), 11 P3.0/STE0 (io), 12 P3.1/SIMO0 (io), 13 P3.2/SOMI0 (io), 14 P3.3/UCLK0 (io), 15 P3.4/UTXD0 (io), 16 P3.5/URXD0 (io), 17 P3.6 (io) "General-purpose digital I/O pin", 18 P3.7 (io) "General-purpose digital I/O pin", 19 P2.3/CA0/TA1 (io), 20 P2.4/CA1/TA2 (io), 21 P1.0/TACLK (io), 22 P1.1/TA0 (io), 23 P1.2/TA1 (io), 24 P1.3/TA2 (io), 25 P1.4/SMCLK/TCK (io), 26 P1.5/TA0/TMS (io), 27 P1.6/TA1/TDI/TCLK (io), 28 P1.7/TA2/TDO/TDI (io)

## MSP430F122IPW
designator U?
8 MHz Mixed Signal Microcontroller with 4 KB Flash, 256 B SRAM and 22 GPIOs, -40 to 85 degC, 28-pin SOP (PW), Green (RoHS & no Sb/Br); Manufacturer: Texas Instruments; PartNumber: MSP430F122IPW; ADC: Slope; Comparators: Yes; Flash(KB): 4; Frequency(MHz): 8; GPIO: 22; SRAM(B): 256; SubFamily: 1 Series; Timers - 16-bit: 1; DatasheetVersion: SLAS312C; PackageVersion: 4040064-7/G; PackageReference: PW28; PackageDescription: 28-Pin Plastic Small Outline, Body 9.7 x 4.4 mm, Pitch 0.65 mm; Supplier 1: Digi-Key; Supplier Part Number 1: 296-12082-5-ND; Supplier 2: Farnell; Supplier Part Number 2: 1471263; Supplier 3: Newark; Supplier Part Number 3: 80K9307; Supplier 4: Mouser; Supplier Part Number 4: 595-430F122IPW; Eco-Plan: Green (RoHS & no Sb/Br); USART: 1; Watchdog: Yes; Mounting Technology: Surface Mount; Code_JEDEC: MO-153; ComponentLink1Description: Manufacturer URL; ComponentLink1URL: http://www.ti.com/; ComponentLink2Description: Datasheet; ComponentLink2URL: http://www.ti.com/general/docs/lit/getliterature.tsp?genericPartNumber=MSP430F122&fileType=pdf; ComponentLink3Description: Package Specification; ComponentLink3URL: http://www.ti.com/litv/pdf/mpds364
footprint TI-PW28_N (SOP, 28-Leads, Body 9.7x4.4mm, Pitch 0.65mm, IPC Medium Density)
pins: 1 TEST (in) "Selects test mode for JTAG pins on Port1", 2 VCC (power) "Supply voltage", 3 P2.5/ROSC (io), 4 VSS (power) "Ground reference", 5 XOUT "Output terminal of crystal oscillator", 6 XIN "Input terminal of crystal oscillator", 7 ~{RST}/NMI (in), 8 P2.0/ACLK (io), 9 P2.1/INCLK (io), 10 P2.2/CAOUT/TA0 (io), 11 P3.0/STE0 (io), 12 P3.1/SIMO0 (io), 13 P3.2/SOMI0 (io), 14 P3.3/UCLK0 (io), 15 P3.4/UTXD0 (io), 16 P3.5/URXD0 (io), 17 P3.6 (io) "General-purpose digital I/O pin", 18 P3.7 (io) "General-purpose digital I/O pin", 19 P2.3/CA0/TA1 (io), 20 P2.4/CA1/TA2 (io), 21 P1.0/TACLK (io), 22 P1.1/TA0 (io), 23 P1.2/TA1 (io), 24 P1.3/TA2 (io), 25 P1.4/SMCLK/TCK (io), 26 P1.5/TA0/TMS (io), 27 P1.6/TA1/TDI/TCLK (io), 28 P1.7/TA2/TDO/TDI (io)

## MSP430F122IPWR
designator U?
8 MHz Mixed Signal Microcontroller with 4 KB Flash, 256 B SRAM and 22 GPIOs, -40 to 85 degC, 28-pin SOP (PW), Green (RoHS & no Sb/Br); Manufacturer: Texas Instruments; PartNumber: MSP430F122IPWR; ADC: Slope; Comparators: Yes; Flash(KB): 4; Frequency(MHz): 8; GPIO: 22; SRAM(B): 256; SubFamily: 1 Series; Timers - 16-bit: 1; DatasheetVersion: SLAS312C; PackageVersion: 4040064-7/G; PackageReference: PW28; PackageDescription: 28-Pin Plastic Small Outline, Body 9.7 x 4.4 mm, Pitch 0.65 mm; Supplier 1: Digi-Key; Supplier Part Number 1: MSP430F122IPWR-ND; Supplier 2: Newark; Supplier Part Number 2: 75C4030; Supplier 3: Mouser; Supplier Part Number 3: 595-430F122IPWR; Eco-Plan: Green (RoHS & no Sb/Br); USART: 1; Watchdog: Yes; Mounting Technology: Surface Mount; Code_JEDEC: MO-153; ComponentLink1Description: Manufacturer URL; ComponentLink1URL: http://www.ti.com/; ComponentLink2Description: Datasheet; ComponentLink2URL: http://www.ti.com/general/docs/lit/getliterature.tsp?genericPartNumber=MSP430F122&fileType=pdf; ComponentLink3Description: Package Specification; ComponentLink3URL: http://www.ti.com/litv/pdf/mpds364
footprint TI-PW28_N (SOP, 28-Leads, Body 9.7x4.4mm, Pitch 0.65mm, IPC Medium Density)
pins: 1 TEST (in) "Selects test mode for JTAG pins on Port1", 2 VCC (power) "Supply voltage", 3 P2.5/ROSC (io), 4 VSS (power) "Ground reference", 5 XOUT "Output terminal of crystal oscillator", 6 XIN "Input terminal of crystal oscillator", 7 ~{RST}/NMI (in), 8 P2.0/ACLK (io), 9 P2.1/INCLK (io), 10 P2.2/CAOUT/TA0 (io), 11 P3.0/STE0 (io), 12 P3.1/SIMO0 (io), 13 P3.2/SOMI0 (io), 14 P3.3/UCLK0 (io), 15 P3.4/UTXD0 (io), 16 P3.5/URXD0 (io), 17 P3.6 (io) "General-purpose digital I/O pin", 18 P3.7 (io) "General-purpose digital I/O pin", 19 P2.3/CA0/TA1 (io), 20 P2.4/CA1/TA2 (io), 21 P1.0/TACLK (io), 22 P1.1/TA0 (io), 23 P1.2/TA1 (io), 24 P1.3/TA2 (io), 25 P1.4/SMCLK/TCK (io), 26 P1.5/TA0/TMS (io), 27 P1.6/TA1/TDI/TCLK (io), 28 P1.7/TA2/TDO/TDI (io)

## MSP430F122IRHBR
designator U?
8 MHz Mixed Signal Microcontroller with 4 KB Flash, 256 B SRAM and 22 GPIOs, -40 to 85 degC, 32-pin QFN (RHB), Green (RoHS & no Sb/Br); Manufacturer: Texas Instruments; PartNumber: MSP430F122IRHBR; ADC: Slope; Comparators: Yes; Flash(KB): 4; Frequency(MHz): 8; GPIO: 22; SRAM(B): 256; SubFamily: 1 Series; Timers - 16-bit: 1; DatasheetVersion: SLAS312C; PackageVersion: 4204326/D; PackageReference: RHB32-3450X3450TP; PackageDescription: 32-Pin Plastic Flat Pack, Body 5 x 5 mm, Pitch 0.5 mm; Supplier 1: Digi-Key; Supplier Part Number 1: 296-15851-2-ND; Supplier 2: Digi-Key; Supplier Part Number 2: 296-15851-1-ND; Supplier 3: Digi-Key; Supplier Part Number 3: 296-15851-6-ND; Supplier 4: Newark; Supplier Part Number 4: 87H2033; Supplier 5: Mouser; Supplier Part Number 5: 595-430F122IRHBR; Eco-Plan: Green (RoHS & no Sb/Br); USART: 1; Watchdog: Yes; Mounting Technology: Surface Mount; Code_JEDEC: MO-220; ComponentLink1Description: Manufacturer URL; ComponentLink1URL: http://www.ti.com/; ComponentLink2Description: Datasheet; ComponentLink2URL: http://www.ti.com/general/docs/lit/getliterature.tsp?genericPartNumber=MSP430F122&fileType=pdf; ComponentLink3Description: Package Specification; ComponentLink3URL: http://www.ti.com/lit/ml/mpqf130c/mpqf130c.pdf
footprint TI-RHB32-3450X3450TP_N (QFN, 32-Leads, Body 5x5mm, Pitch 0.5mm, Thermal Pad 3.45x3.45mm, IPC Medium Density)
pins: 1 VSS (power) "Ground reference", 2 XOUT "Output terminal of crystal oscillator", 3 XIN "Input terminal of crystal oscillator", 4 NC "No internal connection", 5 ~{RST}/NMI (in), 6 P2.0/ACLK (io), 7 P2.1/INCLK (io), 8 P2.2/CAOUT/TA0 (io), 9 P3.0/STE0 (io), 10 P3.1/SIMO0 (io), 11 P3.2/SOMI0 (io), 12 P3.3/UCLK0 (io), 13 P3.4/UTXD0 (io), 14 P3.5/URXD0 (io), 15 P3.6 (io) "General-purpose digital I/O pin", 16 P3.7 (io) "General-purpose digital I/O pin", 17 NC "No internal connection", 18 P2.3/CA0/TA1 (io), 19 P2.4/CA1/TA2 (io), 20 NC "No internal connection", 21 P1.0/TACLK (io), 22 P1.1/TA0 (io), 23 P1.2/TA1 (io), 24 P1.3/TA2 (io), 25 P1.4/SMCLK/TCK (io), 26 P1.5/TA0/TMS (io), 27 P1.6/TA1/TDI/TCLK (io), 28 P1.7/TA2/TDO/TDI (io), 29 TEST (in) "Selects test mode for JTAG pins on Port1", 30 VCC (power) "Supply voltage", 31 NC "No internal connection", 32 P2.5/ROSC (io), 33 QFN PAD (power) "QFN package pad connection to VSS recommended."

## MSP430F122IRHBT
designator U?
8 MHz Mixed Signal Microcontroller with 4 KB Flash, 256 B SRAM and 22 GPIOs, -40 to 85 degC, 32-pin QFN (RHB), Green (RoHS & no Sb/Br); Manufacturer: Texas Instruments; PartNumber: MSP430F122IRHBT; ADC: Slope; Comparators: Yes; Flash(KB): 4; Frequency(MHz): 8; GPIO: 22; SRAM(B): 256; SubFamily: 1 Series; Timers - 16-bit: 1; DatasheetVersion: SLAS312C; PackageVersion: 4204326/D; PackageReference: RHB32-3450X3450TP; PackageDescription: 32-Pin Plastic Flat Pack, Body 5 x 5 mm, Pitch 0.5 mm; Supplier 1: Digi-Key; Supplier Part Number 1: 296-32163-2-ND; Supplier 2: Digi-Key; Supplier Part Number 2: 296-32163-1-ND; Supplier 3: Digi-Key; Supplier Part Number 3: 296-32163-6-ND; Supplier 4: Newark; Supplier Part Number 4: 95H1671; Supplier 5: Mouser; Supplier Part Number 5: 595-430F122IRHBT; Eco-Plan: Green (RoHS & no Sb/Br); USART: 1; Watchdog: Yes; Mounting Technology: Surface Mount; Code_JEDEC: MO-220; ComponentLink1Description: Manufacturer URL; ComponentLink1URL: http://www.ti.com/; ComponentLink2Description: Datasheet; ComponentLink2URL: http://www.ti.com/general/docs/lit/getliterature.tsp?genericPartNumber=MSP430F122&fileType=pdf; ComponentLink3Description: Package Specification; ComponentLink3URL: http://www.ti.com/lit/ml/mpqf130c/mpqf130c.pdf
footprint TI-RHB32-3450X3450TP_N (QFN, 32-Leads, Body 5x5mm, Pitch 0.5mm, Thermal Pad 3.45x3.45mm, IPC Medium Density)
pins: 1 VSS (power) "Ground reference", 2 XOUT "Output terminal of crystal oscillator", 3 XIN "Input terminal of crystal oscillator", 4 NC "No internal connection", 5 ~{RST}/NMI (in), 6 P2.0/ACLK (io), 7 P2.1/INCLK (io), 8 P2.2/CAOUT/TA0 (io), 9 P3.0/STE0 (io), 10 P3.1/SIMO0 (io), 11 P3.2/SOMI0 (io), 12 P3.3/UCLK0 (io), 13 P3.4/UTXD0 (io), 14 P3.5/URXD0 (io), 15 P3.6 (io) "General-purpose digital I/O pin", 16 P3.7 (io) "General-purpose digital I/O pin", 17 NC "No internal connection", 18 P2.3/CA0/TA1 (io), 19 P2.4/CA1/TA2 (io), 20 NC "No internal connection", 21 P1.0/TACLK (io), 22 P1.1/TA0 (io), 23 P1.2/TA1 (io), 24 P1.3/TA2 (io), 25 P1.4/SMCLK/TCK (io), 26 P1.5/TA0/TMS (io), 27 P1.6/TA1/TDI/TCLK (io), 28 P1.7/TA2/TDO/TDI (io), 29 TEST (in) "Selects test mode for JTAG pins on Port1", 30 VCC (power) "Supply voltage", 31 NC "No internal connection", 32 P2.5/ROSC (io), 33 QFN PAD (power) "QFN package pad connection to VSS recommended."

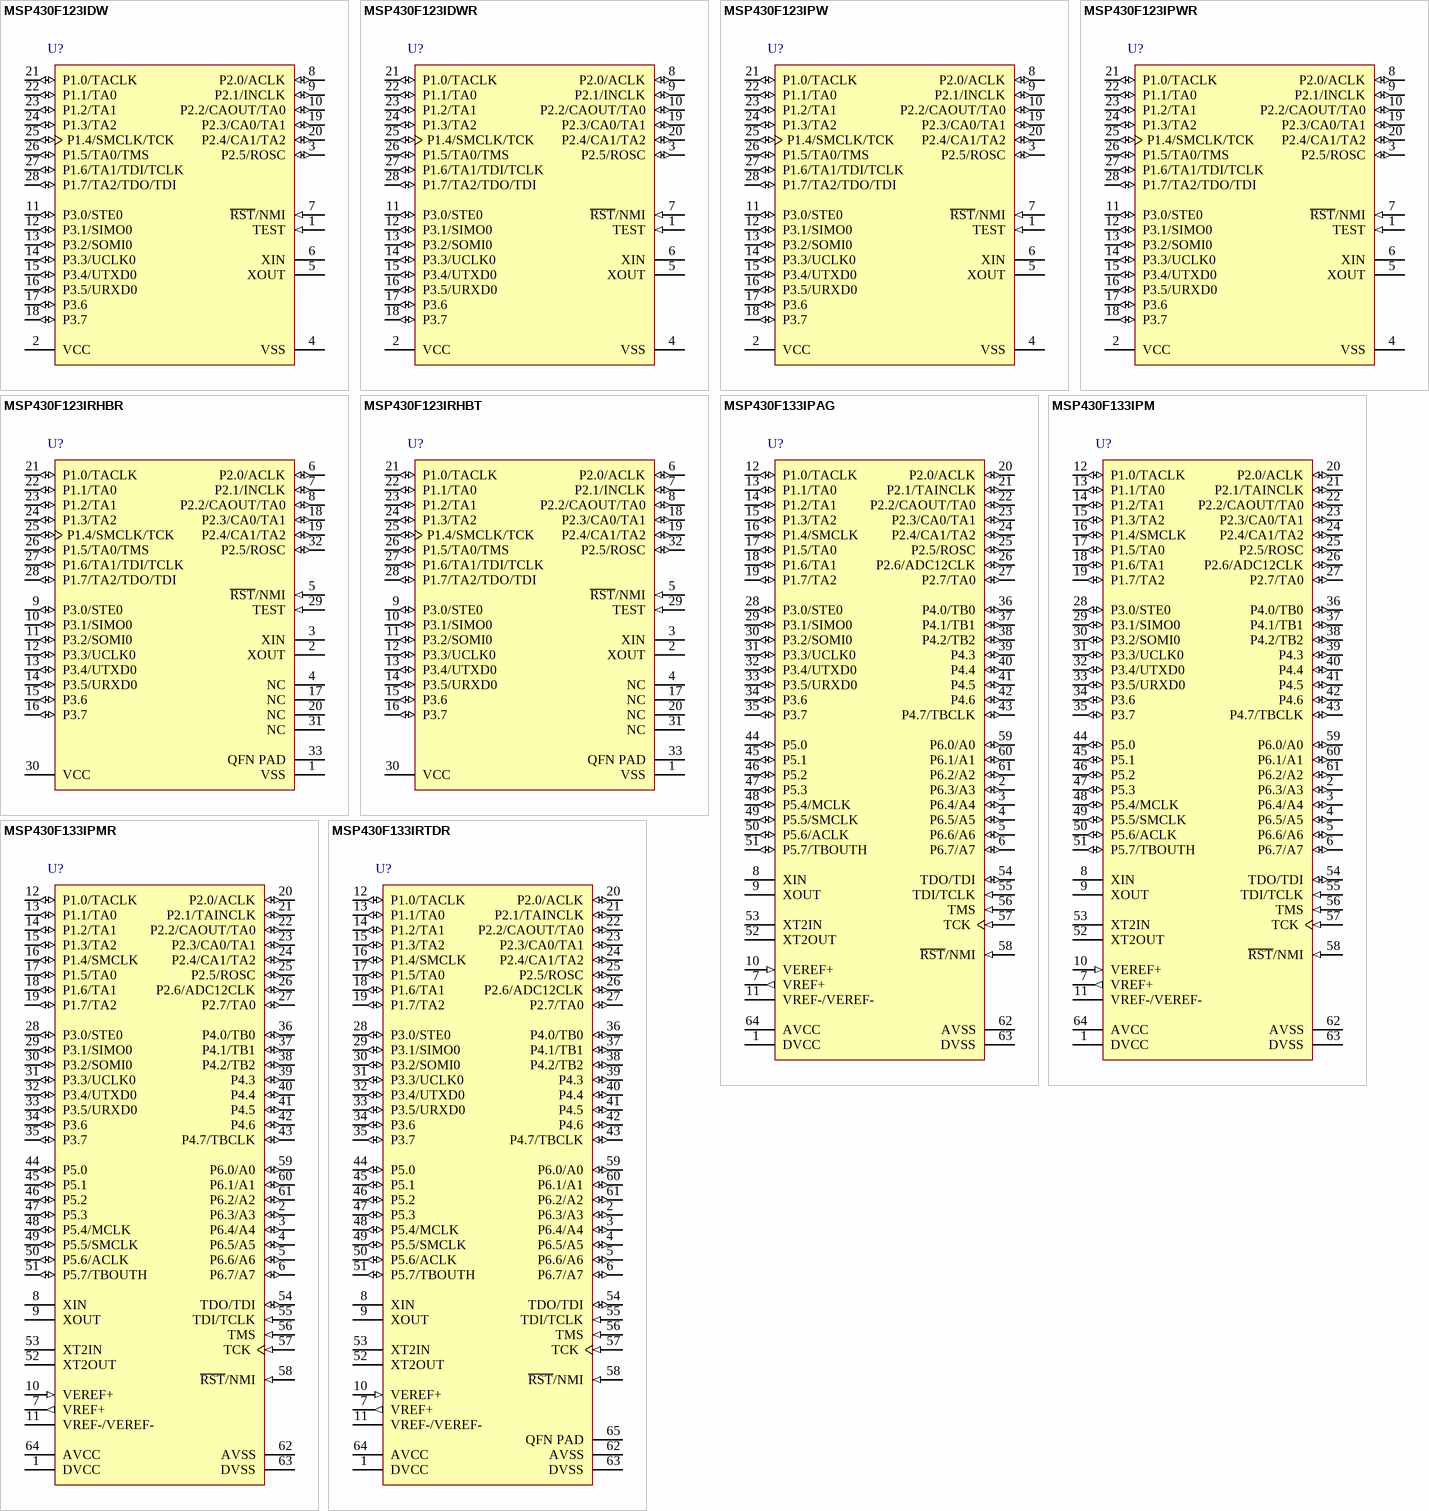
[diagram p20: symbols MSP430F123IDW to MSP430F133IRTDR]

## MSP430F123IDW
designator U?
8 MHz Mixed Signal Microcontroller with 8 KB Flash, 256 B SRAM and 22 GPIOs, -40 to 85 degC, 28-pin SOIC (DW), Green (RoHS & no Sb/Br); Manufacturer: Texas Instruments; PartNumber: MSP430F123IDW; ADC: Slope; Comparators: Yes; Flash(KB): 8; GPIO: 22; SRAM(B): 256; SubFamily: 1 Series; Timers - 16-bit: 1; DatasheetVersion: SLAS312C; PackageVersion: 4040000-6/G; PackageReference: DW28; PackageDescription: 28-Pin Plastic Small Outline, Body 17.90 x 7.50 mm, Pitch 1.27 mm; Supplier 1: Digi-Key; Supplier Part Number 1: 296-13101-5-ND; Supplier 2: Farnell; Supplier Part Number 2: 1103051; Supplier 3: Newark; Supplier Part Number 3: 36K7568; Supplier 4: Mouser; Supplier Part Number 4: 595-430F123IDW; Eco-Plan: Green (RoHS & no Sb/Br); Frequency(MHz): 8; USART: 1; Watchdog: Yes; Mounting Technology: Surface Mount; Code_JEDEC: MS-013; ComponentLink1Description: Manufacturer URL; ComponentLink1URL: http://www.ti.com/; ComponentLink2Description: Datasheet; ComponentLink2URL: http://www.ti.com/general/docs/lit/getliterature.tsp?genericPartNumber=MSP430F123&fileType=pdf; ComponentLink3Description: Package Specification; ComponentLink3URL: http://www.ti.com/lit/ml/mpds175a/mpds175a.pdf
footprint TI-DW28_N (SOIC, 28-Leads, Body 17.9x7.5mm, Pitch 1.27mm, IPC Medium Density)
pins: 1 TEST (in) "Selects test mode for JTAG pins on Port1", 2 VCC (power) "Supply voltage", 3 P2.5/ROSC (io), 4 VSS (power) "Ground reference", 5 XOUT "Output terminal of crystal oscillator", 6 XIN "Input terminal of crystal oscillator", 7 ~{RST}/NMI (in), 8 P2.0/ACLK (io), 9 P2.1/INCLK (io), 10 P2.2/CAOUT/TA0 (io), 11 P3.0/STE0 (io), 12 P3.1/SIMO0 (io), 13 P3.2/SOMI0 (io), 14 P3.3/UCLK0 (io), 15 P3.4/UTXD0 (io), 16 P3.5/URXD0 (io), 17 P3.6 (io) "General-purpose digital I/O pin", 18 P3.7 (io) "General-purpose digital I/O pin", 19 P2.3/CA0/TA1 (io), 20 P2.4/CA1/TA2 (io), 21 P1.0/TACLK (io), 22 P1.1/TA0 (io), 23 P1.2/TA1 (io), 24 P1.3/TA2 (io), 25 P1.4/SMCLK/TCK (io), 26 P1.5/TA0/TMS (io), 27 P1.6/TA1/TDI/TCLK (io), 28 P1.7/TA2/TDO/TDI (io)

## MSP430F123IDWR
designator U?
8 MHz Mixed Signal Microcontroller with 8 KB Flash, 256 B SRAM and 22 GPIOs, -40 to 85 degC, 28-pin SOIC (DW), Green (RoHS & no Sb/Br); Manufacturer: Texas Instruments; PartNumber: MSP430F123IDWR; ADC: Slope; Comparators: Yes; Flash(KB): 8; GPIO: 22; SRAM(B): 256; SubFamily: 1 Series; Timers - 16-bit: 1; DatasheetVersion: SLAS312C; PackageVersion: 4040000-6/G; PackageReference: DW28; PackageDescription: 28-Pin Plastic Small Outline, Body 17.90 x 7.50 mm, Pitch 1.27 mm; Supplier 1: Digi-Key; Supplier Part Number 1: MSP430F123IDWR-ND; Supplier 2: Newark; Supplier Part Number 2: 75C4031; Supplier 3: Mouser; Supplier Part Number 3: 595-430F123IDWR; Eco-Plan: Green (RoHS & no Sb/Br); Frequency(MHz): 8; USART: 1; Watchdog: Yes; Mounting Technology: Surface Mount; Code_JEDEC: MS-013; ComponentLink1Description: Manufacturer URL; ComponentLink1URL: http://www.ti.com/; ComponentLink2Description: Datasheet; ComponentLink2URL: http://www.ti.com/general/docs/lit/getliterature.tsp?genericPartNumber=MSP430F123&fileType=pdf; ComponentLink3Description: Package Specification; ComponentLink3URL: http://www.ti.com/lit/ml/mpds175a/mpds175a.pdf
footprint TI-DW28_N (SOIC, 28-Leads, Body 17.9x7.5mm, Pitch 1.27mm, IPC Medium Density)
pins: 1 TEST (in) "Selects test mode for JTAG pins on Port1", 2 VCC (power) "Supply voltage", 3 P2.5/ROSC (io), 4 VSS (power) "Ground reference", 5 XOUT "Output terminal of crystal oscillator", 6 XIN "Input terminal of crystal oscillator", 7 ~{RST}/NMI (in), 8 P2.0/ACLK (io), 9 P2.1/INCLK (io), 10 P2.2/CAOUT/TA0 (io), 11 P3.0/STE0 (io), 12 P3.1/SIMO0 (io), 13 P3.2/SOMI0 (io), 14 P3.3/UCLK0 (io), 15 P3.4/UTXD0 (io), 16 P3.5/URXD0 (io), 17 P3.6 (io) "General-purpose digital I/O pin", 18 P3.7 (io) "General-purpose digital I/O pin", 19 P2.3/CA0/TA1 (io), 20 P2.4/CA1/TA2 (io), 21 P1.0/TACLK (io), 22 P1.1/TA0 (io), 23 P1.2/TA1 (io), 24 P1.3/TA2 (io), 25 P1.4/SMCLK/TCK (io), 26 P1.5/TA0/TMS (io), 27 P1.6/TA1/TDI/TCLK (io), 28 P1.7/TA2/TDO/TDI (io)

## MSP430F123IPW
designator U?
8 MHz Mixed Signal Microcontroller with 8 KB Flash, 256 B SRAM and 22 GPIOs, -40 to 85 degC, 28-pin SOP (PW), Green (RoHS & no Sb/Br); Manufacturer: Texas Instruments; PartNumber: MSP430F123IPW; ADC: Slope; Comparators: Yes; Flash(KB): 8; GPIO: 22; SRAM(B): 256; SubFamily: 1 Series; Timers - 16-bit: 1; DatasheetVersion: SLAS312C; PackageVersion: 4040064-7/G; PackageReference: PW28; PackageDescription: 28-Pin Plastic Small Outline, Body 9.7 x 4.4 mm, Pitch 0.65 mm; Supplier 1: Digi-Key; Supplier Part Number 1: 296-12083-5-ND; Supplier 2: Farnell; Supplier Part Number 2: 1103053; Supplier 3: Newark; Supplier Part Number 3: 72K8927; Supplier 4: Mouser; Supplier Part Number 4: 595-430F123IPW; Eco-Plan: Green (RoHS & no Sb/Br); Frequency(MHz): 8; USART: 1; Watchdog: Yes; Mounting Technology: Surface Mount; Code_JEDEC: MO-153; ComponentLink1Description: Manufacturer URL; ComponentLink1URL: http://www.ti.com/; ComponentLink2Description: Datasheet; ComponentLink2URL: http://www.ti.com/general/docs/lit/getliterature.tsp?genericPartNumber=MSP430F123&fileType=pdf; ComponentLink3Description: Package Specification; ComponentLink3URL: http://www.ti.com/litv/pdf/mpds364
footprint TI-PW28_N (SOP, 28-Leads, Body 9.7x4.4mm, Pitch 0.65mm, IPC Medium Density)
pins: 1 TEST (in) "Selects test mode for JTAG pins on Port1", 2 VCC (power) "Supply voltage", 3 P2.5/ROSC (io), 4 VSS (power) "Ground reference", 5 XOUT "Output terminal of crystal oscillator", 6 XIN "Input terminal of crystal oscillator", 7 ~{RST}/NMI (in), 8 P2.0/ACLK (io), 9 P2.1/INCLK (io), 10 P2.2/CAOUT/TA0 (io), 11 P3.0/STE0 (io), 12 P3.1/SIMO0 (io), 13 P3.2/SOMI0 (io), 14 P3.3/UCLK0 (io), 15 P3.4/UTXD0 (io), 16 P3.5/URXD0 (io), 17 P3.6 (io) "General-purpose digital I/O pin", 18 P3.7 (io) "General-purpose digital I/O pin", 19 P2.3/CA0/TA1 (io), 20 P2.4/CA1/TA2 (io), 21 P1.0/TACLK (io), 22 P1.1/TA0 (io), 23 P1.2/TA1 (io), 24 P1.3/TA2 (io), 25 P1.4/SMCLK/TCK (io), 26 P1.5/TA0/TMS (io), 27 P1.6/TA1/TDI/TCLK (io), 28 P1.7/TA2/TDO/TDI (io)

## MSP430F123IPWR
designator U?
8 MHz Mixed Signal Microcontroller with 8 KB Flash, 256 B SRAM and 22 GPIOs, -40 to 85 degC, 28-pin SOP (PW), Green (RoHS & no Sb/Br); Manufacturer: Texas Instruments; PartNumber: MSP430F123IPWR; ADC: Slope; Comparators: Yes; Flash(KB): 8; GPIO: 22; SRAM(B): 256; SubFamily: 1 Series; Timers - 16-bit: 1; DatasheetVersion: SLAS312C; PackageVersion: 4040064-7/G; PackageReference: PW28; PackageDescription: 28-Pin Plastic Small Outline, Body 9.7 x 4.4 mm, Pitch 0.65 mm; Supplier 1: Digi-Key; Supplier Part Number 1: 296-26179-2-ND; Supplier 2: Digi-Key; Supplier Part Number 2: 296-26179-1-ND; Supplier 3: Digi-Key; Supplier Part Number 3: 296-26179-6-ND; Supplier 4: Newark; Supplier Part Number 4: 75C4033; Supplier 5: Mouser; Supplier Part Number 5: 595-430F123IPWR; Eco-Plan: Green (RoHS & no Sb/Br); Frequency(MHz): 8; USART: 1; Watchdog: Yes; Mounting Technology: Surface Mount; Code_JEDEC: MO-153; ComponentLink1Description: Manufacturer URL; ComponentLink1URL: http://www.ti.com/; ComponentLink2Description: Datasheet; ComponentLink2URL: http://www.ti.com/general/docs/lit/getliterature.tsp?genericPartNumber=MSP430F123&fileType=pdf; ComponentLink3Description: Package Specification; ComponentLink3URL: http://www.ti.com/litv/pdf/mpds364
footprint TI-PW28_N (SOP, 28-Leads, Body 9.7x4.4mm, Pitch 0.65mm, IPC Medium Density)
pins: 1 TEST (in) "Selects test mode for JTAG pins on Port1", 2 VCC (power) "Supply voltage", 3 P2.5/ROSC (io), 4 VSS (power) "Ground reference", 5 XOUT "Output terminal of crystal oscillator", 6 XIN "Input terminal of crystal oscillator", 7 ~{RST}/NMI (in), 8 P2.0/ACLK (io), 9 P2.1/INCLK (io), 10 P2.2/CAOUT/TA0 (io), 11 P3.0/STE0 (io), 12 P3.1/SIMO0 (io), 13 P3.2/SOMI0 (io), 14 P3.3/UCLK0 (io), 15 P3.4/UTXD0 (io), 16 P3.5/URXD0 (io), 17 P3.6 (io) "General-purpose digital I/O pin", 18 P3.7 (io) "General-purpose digital I/O pin", 19 P2.3/CA0/TA1 (io), 20 P2.4/CA1/TA2 (io), 21 P1.0/TACLK (io), 22 P1.1/TA0 (io), 23 P1.2/TA1 (io), 24 P1.3/TA2 (io), 25 P1.4/SMCLK/TCK (io), 26 P1.5/TA0/TMS (io), 27 P1.6/TA1/TDI/TCLK (io), 28 P1.7/TA2/TDO/TDI (io)

## MSP430F123IRHBR
designator U?
8 MHz Mixed Signal Microcontroller with 8 KB Flash, 256 B SRAM and 22 GPIOs, -40 to 85 degC, 32-pin QFN (RHB), Green (RoHS & no Sb/Br); Manufacturer: Texas Instruments; PartNumber: MSP430F123IRHBR; ADC: Slope; Comparators: Yes; Flash(KB): 8; GPIO: 22; SRAM(B): 256; SubFamily: 1 Series; Timers - 16-bit: 1; DatasheetVersion: SLAS312C; PackageVersion: 4204326/D; PackageReference: RHB32-3450X3450TP; PackageDescription: 32-Pin Plastic Flat Pack, Body 5 x 5 mm, Pitch 0.5 mm; Supplier 1: Digi-Key; Supplier Part Number 1: 296-15852-2-ND; Supplier 2: Digi-Key; Supplier Part Number 2: 296-15852-1-ND; Supplier 3: Digi-Key; Supplier Part Number 3: 296-15852-6-ND; Supplier 4: Farnell; Supplier Part Number 4: 1903425; Supplier 5: Newark; Supplier Part Number 5: 87H2034; Supplier 6: Mouser; Supplier Part Number 6: 595-430F123IRHBR; Eco-Plan: Green (RoHS & no Sb/Br); Frequency(MHz): 8; USART: 1; Watchdog: Yes; Mounting Technology: Surface Mount; Code_JEDEC: MO-220; ComponentLink1Description: Manufacturer URL; ComponentLink1URL: http://www.ti.com/; ComponentLink2Description: Datasheet; ComponentLink2URL: http://www.ti.com/general/docs/lit/getliterature.tsp?genericPartNumber=MSP430F123&fileType=pdf; ComponentLink3Description: Package Specification; ComponentLink3URL: http://www.ti.com/lit/ml/mpqf130c/mpqf130c.pdf
footprint TI-RHB32-3450X3450TP_N (QFN, 32-Leads, Body 5x5mm, Pitch 0.5mm, Thermal Pad 3.45x3.45mm, IPC Medium Density)
pins: 1 VSS (power) "Ground reference", 2 XOUT "Output terminal of crystal oscillator", 3 XIN "Input terminal of crystal oscillator", 4 NC "No internal connection", 5 ~{RST}/NMI (in), 6 P2.0/ACLK (io), 7 P2.1/INCLK (io), 8 P2.2/CAOUT/TA0 (io), 9 P3.0/STE0 (io), 10 P3.1/SIMO0 (io), 11 P3.2/SOMI0 (io), 12 P3.3/UCLK0 (io), 13 P3.4/UTXD0 (io), 14 P3.5/URXD0 (io), 15 P3.6 (io) "General-purpose digital I/O pin", 16 P3.7 (io) "General-purpose digital I/O pin", 17 NC "No internal connection", 18 P2.3/CA0/TA1 (io), 19 P2.4/CA1/TA2 (io), 20 NC "No internal connection", 21 P1.0/TACLK (io), 22 P1.1/TA0 (io), 23 P1.2/TA1 (io), 24 P1.3/TA2 (io), 25 P1.4/SMCLK/TCK (io), 26 P1.5/TA0/TMS (io), 27 P1.6/TA1/TDI/TCLK (io), 28 P1.7/TA2/TDO/TDI (io), 29 TEST (in) "Selects test mode for JTAG pins on Port1", 30 VCC (power) "Supply voltage", 31 NC "No internal connection", 32 P2.5/ROSC (io), 33 QFN PAD (power) "QFN package pad connection to VSS recommended."

## MSP430F123IRHBT
designator U?
8 MHz Mixed Signal Microcontroller with 8 KB Flash, 256 B SRAM and 22 GPIOs, -40 to 85 degC, 32-pin QFN (RHB), Green (RoHS & no Sb/Br); Manufacturer: Texas Instruments; PartNumber: MSP430F123IRHBT; ADC: Slope; Comparators: Yes; Flash(KB): 8; GPIO: 22; SRAM(B): 256; SubFamily: 1 Series; Timers - 16-bit: 1; DatasheetVersion: SLAS312C; PackageVersion: 4204326/D; PackageReference: RHB32-3450X3450TP; PackageDescription: 32-Pin Plastic Flat Pack, Body 5 x 5 mm, Pitch 0.5 mm; Supplier 1: Digi-Key; Supplier Part Number 1: MSP430F123IRHBT-ND; Supplier 2: Farnell; Supplier Part Number 2: 1649387; Supplier 3: Newark; Supplier Part Number 3: 95H1672; Supplier 4: Newark; Supplier Part Number 4: 15P0260; Supplier 5: Mouser; Supplier Part Number 5: 595-430F123IRHBT; Eco-Plan: Green (RoHS & no Sb/Br); Frequency(MHz): 8; USART: 1; Watchdog: Yes; Mounting Technology: Surface Mount; Code_JEDEC: MO-220; ComponentLink1Description: Manufacturer URL; ComponentLink1URL: http://www.ti.com/; ComponentLink2Description: Datasheet; ComponentLink2URL: http://www.ti.com/general/docs/lit/getliterature.tsp?genericPartNumber=MSP430F123&fileType=pdf; ComponentLink3Description: Package Specification; ComponentLink3URL: http://www.ti.com/lit/ml/mpqf130c/mpqf130c.pdf
footprint TI-RHB32-3450X3450TP_N (QFN, 32-Leads, Body 5x5mm, Pitch 0.5mm, Thermal Pad 3.45x3.45mm, IPC Medium Density)
pins: 1 VSS (power) "Ground reference", 2 XOUT "Output terminal of crystal oscillator", 3 XIN "Input terminal of crystal oscillator", 4 NC "No internal connection", 5 ~{RST}/NMI (in), 6 P2.0/ACLK (io), 7 P2.1/INCLK (io), 8 P2.2/CAOUT/TA0 (io), 9 P3.0/STE0 (io), 10 P3.1/SIMO0 (io), 11 P3.2/SOMI0 (io), 12 P3.3/UCLK0 (io), 13 P3.4/UTXD0 (io), 14 P3.5/URXD0 (io), 15 P3.6 (io) "General-purpose digital I/O pin", 16 P3.7 (io) "General-purpose digital I/O pin", 17 NC "No internal connection", 18 P2.3/CA0/TA1 (io), 19 P2.4/CA1/TA2 (io), 20 NC "No internal connection", 21 P1.0/TACLK (io), 22 P1.1/TA0 (io), 23 P1.2/TA1 (io), 24 P1.3/TA2 (io), 25 P1.4/SMCLK/TCK (io), 26 P1.5/TA0/TMS (io), 27 P1.6/TA1/TDI/TCLK (io), 28 P1.7/TA2/TDO/TDI (io), 29 TEST (in) "Selects test mode for JTAG pins on Port1", 30 VCC (power) "Supply voltage", 31 NC "No internal connection", 32 P2.5/ROSC (io), 33 QFN PAD (power) "QFN package pad connection to VSS recommended."